# Altium footprint library PcbLibForHigh_Voltage_Sensor.PcbLib: 35 footprints (part 3 of 3)
Each footprint in its own frame and in the unit in brackets; x right, y up, seen from the top. Pads: shape width x height; smd on the part's side, far side on the other; paste and mask are expansions set on the pad; w line width, h text height; cw(c..) or ccw(c..) is an arc to the next point about the centre after c.
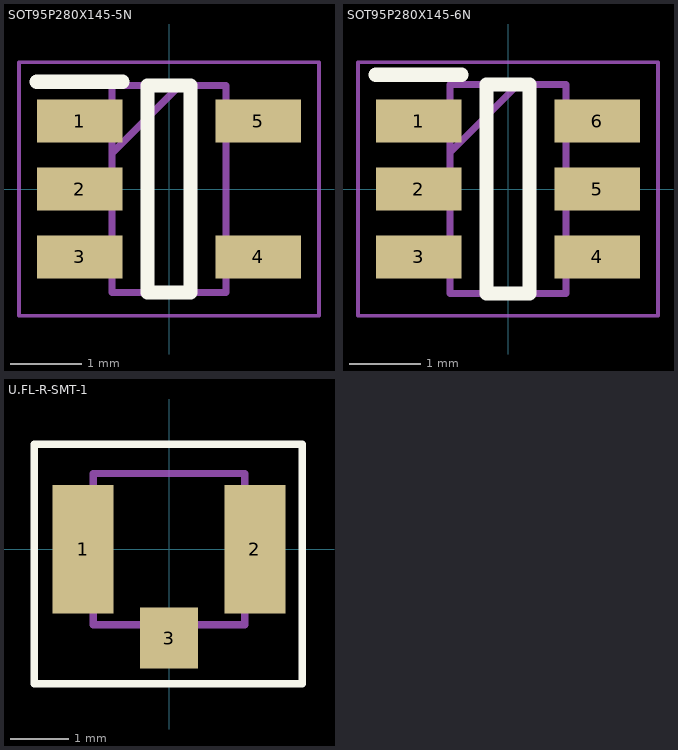
[diagram p2: the footprints below, top view; thin cyan lines are the x and y axes]

## SOT95P280X145-5N [mm]
pads (5):
  rect 1.2x0.6 smd: 1(-1.25,0.95) 2(-1.25,0) 3(-1.25,-0.95) 4(1.25,-0.95) 5(1.25,0.95)
Top Overlay:
  lines w0.2: -1.85,1.5 -0.65,1.5 ; -0.3,-1.45 -0.3,1.45 0.3,1.45 0.3,-1.45 -0.3,-1.45
Mechanical 13:
  lines w0.1: -0.8,0.5 0.15,1.45 ; -0.8,-1.45 -0.8,1.45 0.8,1.45 0.8,-1.45 -0.8,-1.45
Mechanical 15:
  lines w0.05: -2.1,-1.775 -2.1,1.775 2.1,1.775 2.1,-1.775 -2.1,-1.775
3D body "TLV75533PDBVR.stp": height 1.45, standoff 0, extent -1.4,-1.45 1.4,1.45

## SOT95P280X145-6N [mm]
pads (6):
  rect 1.2x0.6 smd: 1(-1.25,0.95) 2(-1.25,0) 3(-1.25,-0.95) 4(1.25,-0.95) 5(1.25,0) 6(1.25,0.95)
Top Overlay:
  lines w0.2: -1.85,1.6 -0.65,1.6 ; -0.3,-1.462 0.3,-1.462 0.3,1.462 -0.3,1.462 -0.3,-1.462
Mechanical 13:
  lines w0.1: -0.812,0.512 0.138,1.462 ; -0.812,-1.462 0.812,-1.462 0.812,1.462 -0.812,1.462 -0.812,-1.462
Mechanical 15:
  lines w0.05: -2.1,-1.775 2.1,-1.775 2.1,1.775 -2.1,1.775 -2.1,-1.775
3D body "USBLC6-2SC6.stp": height 1.45, standoff 0, extent -1.4,-1.462 1.4,1.462

## U.FL-R-SMT-1 [mm]
pads (3):
  rect 1.05x2.2 smd: 1(-1.475,0) 2(1.475,0)
  rect 1x1.05 smd: 3(0,-1.525)
Top Overlay:
  lines w0.127: -2.311,-2.311 2.286,-2.311 2.286,1.803 -2.083,1.803 -2.311,1.803 -2.311,-2.311
Mechanical 3:
  lines w0.127: -1.3,-1.3 -1.3,1.3 1.3,1.3 1.3,-1.3 -1.3,-1.3
Mechanical 7:
  lines w0.127: -1.3,-1.3 -1.3,1.3 1.3,1.3 1.3,-1.3 -1.3,-1.3
3D body "U.FL-R-SMT-01---3DModel-STEP-56544.STEP": height 1.25, standoff 0, extent -1.473,-1.549 1.527,1.551